# Altium integrated library 2466267-1.IntLib: 1 symbol
Pins are listed as number, name and electrical type; pins without a type are passive.

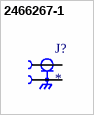
[diagram p0: symbol 2466267-1]

## 2466267-1
designator J?
MP: 2466267-1; Package: None; Price: None; Value: *; Availability: Unavailable
footprint TE_2466267-1
pins: 1 SIG, 2 SH (power), 3 SH (power), 4 SH (power), 5 SH (power)